# Altium schematic symbol library 399200302.SchLib: 2 symbols
Pins are listed as number, name and electrical type; pins without a type are passive.

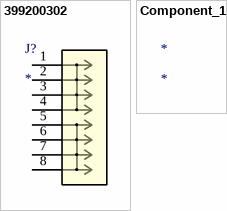
[diagram p0: symbols 399200302 to Component_1]

## 399200302
designator J?
No Description Available; Mfr_Name: Molex Connector Corporation; RefDes: RefDes; Type: Type
footprint CONN_39920-0302_MOL
pins: 1, 2, 3, 4, 5, 6, 7, 8

## Component_1
designator *